# Altium footprint library preamp.PcbLib: 26 footprints (part 2 of 2)
Each footprint in its own frame and in the unit in brackets; x right, y up, seen from the top. Pads: shape width x height; smd on the part's side, far side on the other; paste and mask are expansions set on the pad; w line width, h text height; cw(c..) or ccw(c..) is an arc to the next point about the centre after c.
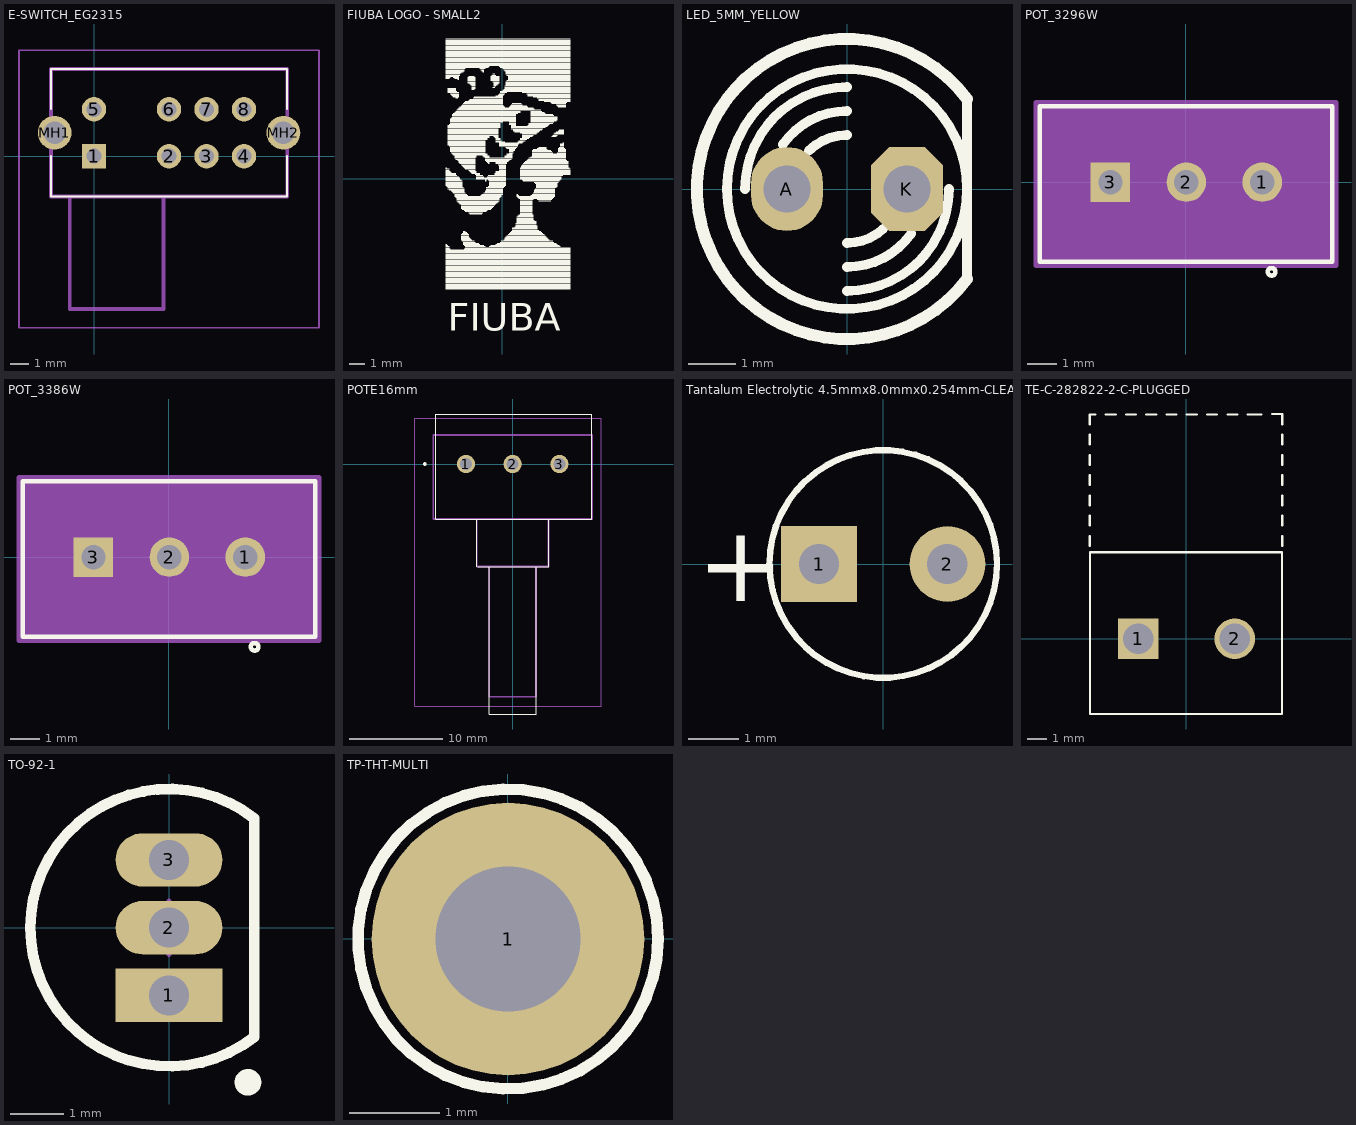
[diagram p1: the footprints below, top view; thin cyan lines are the x and y axes]

## E-SWITCH_EG2315 [mm]
pads (10):
  rect 1.3x1.3 hole 0.8: 1(0,0)
  round 1.3 hole 0.8: 2(4,0) 3(6,0) 4(8,0) 5(0,2.5) 6(4,2.5) 7(6,2.5) 8(8,2.5)
  round 1.8 hole 1.2: MH1(-2.1,1.25) MH2(10.1,1.25)
Top Overlay:
  lines w0.1: -2.3,0 -2.3,-2.15 10.3,-2.15 10.3,0 ; -2.3,2.5 -2.3,4.65 10.3,4.65 10.3,2.5
Mechanical 13:
  lines w0.2: -1.3,-2.15 -1.3,-8.15 3.7,-8.15 3.7,-2.15 ; -2.3,-2.15 -2.3,4.65 10.3,4.65 10.3,-2.15 -2.3,-2.15
Mechanical 15:
  lines w0.1: -4,-9.15 -4,5.65 12,5.65 12,-9.15 -4,-9.15
3D body "EG_2315.step": height 4.69, standoff -3.14, extent -2.313,-5.658 10.287,4.642
3D body: height 0.25, standoff -230.04, extent 3.302,-3.937 3.302,-3.937
3D body: height 0.25, standoff -230.04, extent 3.302,-3.937 3.302,-3.937
3D body: height 0.25, standoff -230.04, extent 2.921,1.27 2.921,1.27
3D body: height 0.25, standoff -230.04, extent 3.81,1.27 3.81,1.27
3D body "EG_2315.step": height 4.68, standoff -3.15, extent -2.3,-5.63 10.3,4.67

## FIUBA LOGO - SMALL2 [mm]
Top Overlay:
  drawing of 509 lines, arcs and shapes, not listed
  text "FIUBA" at -3.556,-9.906 h1.8

## LED_5MM_YELLOW [mil]
pads (2):
  oval 60x70 hole 39.37: A(-50,0)
  oct 60x70 hole 39.37: K(50,0)
Top Overlay:
  circle w8: c0,0 r100
  lines w8: -85,0 cw(c0,0) 0,85 ; -53.4,37.06 cw(c0,0) 0,65 ; -31.82,31.82 cw(c0,0) 0,45 ; 0,-85 ccw(c0,0) 85,0 ; 0,-65 ccw(c0,0) 53.4,-37.06 ; 0,-45 ccw(c0,0) 30.32,-33.25 ; 100,-75 100,75
  lines w10: 100,-75 cw(c0,0) 100,75
3D body "LED-5mm-YELLOW.step": height 352.16, standoff -255.91, extent -118.11,-118.11 98.43,118.11

## POT_3296W [mil]
pads (3):
  round 52 / inner round 60 / far side round 52 hole 32: 1(101,0) 2(1,0)
  rect 52x52 / inner round 60 / far side rect 52x52 hole 32: 3(-99,0)
Top Overlay:
  circle w6: c113.19,-118.11 r5
  lines w6: -192,-105 -192,100 193,100 193,-105 -192,-105
Mechanical 13:
  circle w0: c-137,45 r40
  circle w0: c112.5,-80 r5
Mechanical 15:
  region: 198,-110 -197,-110 -197,105 198,105
  lines w6: -197,-110 198,-110 198,105 -197,105 -197,-110
3D body "POT_3296W-colored.stp": height 453.7, standoff -253.3, extent -187.5,-96.5 187.5,93.5
3D body: height 0, standoff 0, extent 100,-5 110,5

## POT_3386W [mil]
pads (3):
  round 52 / inner round 60 / far side round 52 hole 32: 1(101,0) 2(1,0)
  rect 52x52 / inner round 60 / far side rect 52x52 hole 32: 3(-99,0)
Top Overlay:
  circle w6: c113.19,-118.11 r5
  lines w6: -192,-105 193,-105 193,100 -192,100 -192,-105
Mechanical 13:
  circle w0: c112.5,-80 r5
  circle w0: c-137,45 r40
Mechanical 15:
  region: 198,-110 -197,-110 -197,105 198,105
  lines w6: -197,-110 -197,105 198,105 198,-110 -197,-110
3D body: height 0, standoff 0, extent 100,-5 110,5
3D body "Bourns 3386W.step": height 375.2, standoff -196.85, extent -184.25,-97.05 190.94,93.11

## POTE16mm [mm]
pads (3):
  round 1.95 hole 1.3: 1(-5,0.025) 2(0,0.025) 3(5,0.025)
Top Overlay:
  lines w0.1: -3.85,-10.955 -3.85,-5.875 ; -3.75,-10.955 3.85,-10.955 3.85,-5.875 ; -2.5,-10.955 -2.5,-26.725 2.5,-26.725 2.5,-10.955 ; -8.25,-5.875 -8.25,5.375 8.45,5.375 8.45,-5.875 -8.25,-5.875
  lines w0.2: -9.4,-0.075 cw(c-9.4,0.025) -9.4,0.125 cw(c-9.4,0.025) -9.4,-0.075
Mechanical 13:
  lines w0.2: -3.85,-5.875 -3.85,-10.955 3.85,-10.955 3.85,-5.875 ; -2.5,-10.955 -2.5,-24.875 2.5,-24.875 2.5,-10.955 ; -8.5,-5.875 -8.5,3.125 8.5,3.125 8.5,-5.875 -8.5,-5.875
Mechanical 15:
  lines w0.1: -10.5,-25.875 -10.5,4.925 9.5,4.925 9.5,-25.875 -10.5,-25.875
3D body "POTENTIOMETER16mm.STEP": height 20.25, standoff -3, extent -8.15,-26.65 8.35,5.25

## Tantalum Electrolytic 4.5mmx8.0mmx0.254mm-CLEAN [mm]
pads (2):
  rect 1.5x1.5 hole 0.8: 1(-1.27,0)
  round 1.5 hole 0.8: 2(1.27,0)
Top Overlay:
  lines w0.127: 2.25,0 cw(c0,0) 2.25,0.005
  text "+" at -3.683,-0.737 h1.5
3D body "User Library-CAP_TANT_0_1.step": height 8.5, standoff -2.5, extent -2.174,-2.174 2.174,2.174

## TE-C-282822-2-C-PLUGGED [mm]
pads (2):
  rect 2.1x2.1 hole 1.6: 1(-2.5,0)
  round 2.1 hole 1.6: 2(2.5,0)
Top Overlay:
  lines w0.127: -5.025,4.825 -5.025,5.325 ; -5.025,5.875 -5.025,6.375 ; -5.025,6.925 -5.025,7.425 ; -5.025,7.975 -5.025,8.475 ; -5.025,9.025 -5.025,9.525 ; -5.025,10.075 -5.025,10.575 ; -5.025,11.125 -5.025,11.625 -4.725,11.625 ; -4.175,11.625 -3.675,11.625 ; -3.125,11.625 -2.625,11.625 ; -2.075,11.625 -1.575,11.625 ; -1.025,11.625 -0.525,11.625 ; 0.025,11.625 0.525,11.625 ; 1.075,11.625 1.575,11.625 ; 2.125,11.625 2.625,11.625 ; 3.175,11.625 3.675,11.625 ; 3.375,11.625 3.875,11.625 ; 4.45,11.65 4.975,11.65 4.975,11.125 ; 4.975,4.825 4.975,5.325 ; 4.975,5.875 4.975,6.375 ; 4.975,6.925 4.975,7.425 ; 4.975,7.975 4.975,8.475 ; 4.975,9.025 4.975,9.525 ; 4.975,10.075 4.975,10.575 ; -5,-3.9 -5,3.075 -5,4.475 4.95,4.475 4.95,-3.9 -5,-3.9
3D body "c-796640-2-e-3d-colored.stp": height 18.43, standoff 0.03, extent -5.025,-3.875 4.975,11.625
3D body "c-282822-2-c-3d-colored.stp": height 12.03, standoff -3.47, extent -5.025,-3.875 4.975,4.475

## TO-92-1 [mm]
pads (3):
  rect 2x1 hole 0.75: 1(0,-1.27)
  oval 2x1 hole 0.75: 2(0,0) 3(0,1.27)
Top Overlay:
  circle w0.25: c1.48,-2.9 r0.125
  lines w0.2: 1.601,-2.049 cw(c0,0) 1.601,2.049 1.6,-2.049
Mechanical 13:
  lines w0.1: 1.601,-2.049 cw(c0,0) 1.601,2.049 1.6,-2.049
Mechanical 15:
  lines w0.1: -0.5,0 0.5,0 ; 0,-0.5 0,0.5
3D body "TO-92-1.step": height 6.47, standoff -6.03, extent -2.494,-2.515 1.376,2.484

## TP-THT-MULTI [mm]
pads (1):
  round 3 hole 1.6: 1(0,0)
Top Overlay:
  circle w0.127: c0,0 r1.651
Mechanical 13:
  circle w0.076: c0,0 r0.76
3D body "TestPoint_Multi.stp": height 8.09, standoff -3.21, extent -1.597,-1.6 1.597,1.587